# Altium integrated library Коммут элементы-mm.IntLib: 58 symbols
Pins are listed as number, name and electrical type; pins without a type are passive.

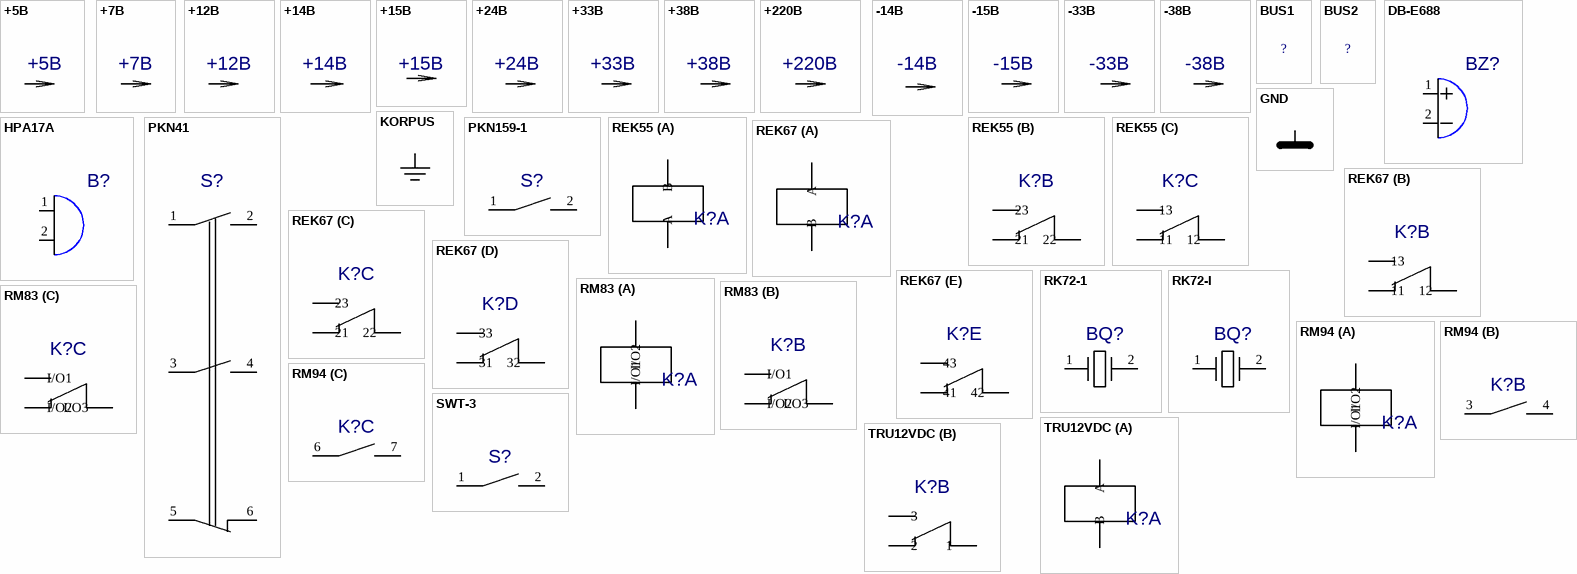
[diagram p0: symbols +5B to TRU12VDC]

## +5B
designator PWR?
Value: +5B
pins: 1 +5B (power)

## +7B
designator PWR?
Value: +7B
pins: 1 +7B (power)

## +12B
designator PWR?
Value: +12B
pins: 1 +12B (power)

## +14B
designator PWR?
Value: +14B
pins: 1 +14B (power)

## +15B
designator PWR?
Value: +15B
pins: 1 +15B (power)

## +24B
designator PWR?
Value: +24B
pins: 1 +24B (power)

## +33B
designator PWR?
Value: +33B
pins: 1 +33B (power)

## +38B
designator PWR?
Value: +38B
pins: 1 +38B (power)

## +220B
designator PWR?
Value: +220B
pins: 1 +220B (power)

## -14B
designator PWR?
Value: -14B
pins: 1 -14B (power)

## -15B
designator PWR?
Value: -15B
pins: 1 -15B (power)

## -33B
designator PWR?
Value: -33B
pins: 1 -33B (power)

## -38B
designator PWR?
Value: -38B
pins: 1 -38B (power)

## BUS1
designator ?  (value not drawn)
Value: *
footprint BUS1
pins: 1 GND (power) hidden, 2 GND (power) hidden, 3 GND (power) hidden, 4 GND (power) hidden, 5 GND (power) hidden, 6 GND (power) hidden, 7 GND (power) hidden, 8 GND (power) hidden

## BUS2
designator ?  (value not drawn)
Value: *
footprint BUS2
pins: 1 GND (power) hidden, 2 GND (power) hidden, 3 GND (power) hidden, 4 GND (power) hidden, 5 GND (power) hidden

## DB-E688
designator BZ?  (value not drawn)
Value: *
footprint DB-E688
pins: 1, 2

## GND
designator PWR?  (value not drawn)
Value: {Value}
pins: 1 GND (power)

## HPA17A
designator B?  (value not drawn)
Value: *
footprint ZUM-2
pins: 1, 2

## KORPUS
designator PWR?  (value not drawn)
Value: *
pins: 1 KORPUS (power)

## PKN41
designator S?  (value not drawn)
Value: *
footprint PKN41
pins: 1 I/O1, 2 I/O2, 3 I/O3, 4 I/O4, 5 I/O5, 6 I/O6

## PKN159-1
designator S?  (value not drawn)
Value: *
footprint PKN159-1
pins: 1 I/O1, 2 I/O2

## REK55
designator K?  (value not drawn)
Value: *
footprint REK55
part A pins: 1 B, 2 A
part B pins: 3 22, 4 21, 5 23
part C pins: 6 12, 7 11, 8 13

## REK67
designator K?  (value not drawn)
Value: *
footprint REK67
part A pins: 1 A, 2 B
part B pins: 3 11, 4 12, 5 13
part C pins: 6 21, 7 22, 8 23
part D pins: 9 31, 10 32, 11 33
part E pins: 12 41, 13 42, 14 43

## RK72-1
designator BQ?  (value not drawn)
Value: *
footprint RK72-I
pins: 1 I/O1, 2 I/O2

## RK72-I
designator BQ?  (value not drawn)
Value: *
footprint RK72-I
pins: 1 I/O1, 2 I/O2

## RM83
designator K?  (value not drawn)
Value: *
footprint RM83
part A pins: 1 I/O1, 2 I/O2
part B pins: 3 I/O2, 4 I/O3, 5 I/O1
part C pins: 6 I/O2, 7 I/O3, 8 I/O1

## RM94
designator K?  (value not drawn)
Value: *
footprint RM94
pins on every part: 5 hidden, 8 hidden
part A pins: 1 I/O1, 2 I/O2
part B pins: 3 I/O1, 4 I/O2
part C pins: 6 I/O1, 7 I/O2

## SWT-3
designator S?  (value not drawn)
Value: *
footprint SWT3
pins: 1 I/O1, 2 I/O2, 3 hidden, 4 hidden

## TRU12VDC
designator K?  (value not drawn)
Value: *
footprint TRU12VDC
part A pins: 1 A, 2 B
part B pins: 3 1, 4 2, 5 3

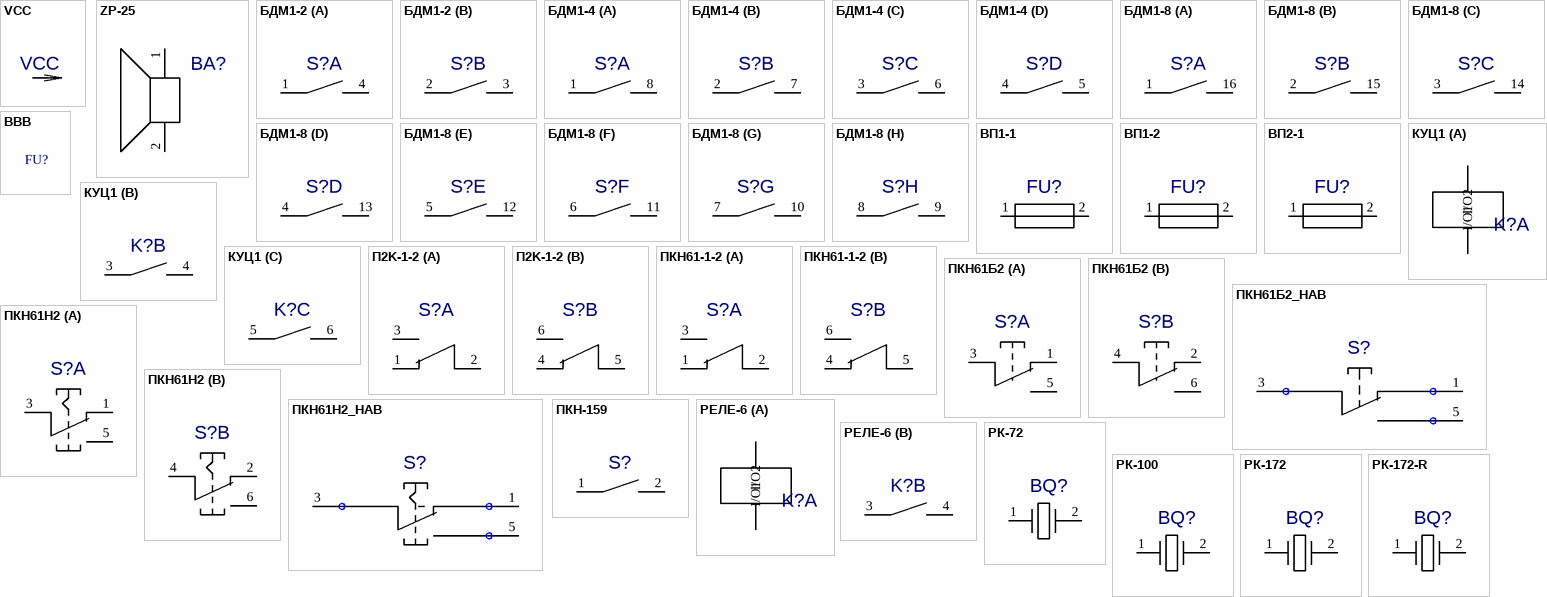
[diagram p1: symbols VCC to РК-172-R]

## VCC
designator PWR?
Value: VCC
pins: 1 VCC (power)

## ZP-25
designator BA?  (value not drawn)
Value: *
footprint ZUM1
pins: 1 I/O1, 2 I/O2

## БДМ1-2
designator S?  (value not drawn)
Value: *
footprint BDM1-2
part A pins: 1 I/O1, 4 I/O2
part B pins: 2 I/O1, 3 I/O2

## БДМ1-4
designator S?  (value not drawn)
Value: *
footprint BDM1-4
part A pins: 1 I/O1, 8 I/O2
part B pins: 2 I/O1, 7 I/O2
part C pins: 3 I/O1, 6 I/O2
part D pins: 4 I/O1, 5 I/O2

## БДМ1-8
designator S?  (value not drawn)
Value: *
footprint BDM1-8
part A pins: 1 I/O1, 16 I/O2
part B pins: 2 I/O1, 15 I/O2
part C pins: 3 I/O1, 14 I/O2
part D pins: 4 I/O1, 13 I/O2
part E pins: 5 I/O1, 12 I/O2
part F pins: 6 I/O1, 11 I/O2
part G pins: 7 I/O1, 10 I/O2
part H pins: 8 I/O1, 9 I/O2

## ВВВ
designator FU?  (value not drawn)
PDIF_TY: 12023; Value: *
footprint VP2-1_ВВВ(Primary)
pins: A 3 hidden, B 4 hidden

## ВП1-1
designator FU?  (value not drawn)
Value: *
footprint VP1-1
pins: 1 I/O1, 2 I/O2, 3 hidden, 4 hidden

## ВП1-2
designator FU?  (value not drawn)
Value: *
footprint ВП1-2
pins: 1 I/O0, 2 I/O1

## ВП2-1
designator FU?  (value not drawn)
Value: *
footprint VP2-1
pins: 1 I/O1, 2 I/O2, 3 hidden, 4 hidden

## КУЦ1
designator K?  (value not drawn)
Value: *
footprint KUZ1
part A pins: 1 I/O1, 2 I/O2
part B pins: 3 I/O1, 4 I/O2
part C pins: 5 I/O1, 6 I/O2

## П2K-1-2
designator S?  (value not drawn)
Value: *
footprint P2K-1-2
part A pins: 1 I/O2, 2 I/O3, 3 I/O1
part B pins: 4 I/O2, 5 I/O3, 6 I/O1

## ПКН61-1-2
designator S?  (value not drawn)
Value: *
footprint PKN61-1
part A pins: 1 I/O2, 2 I/O3, 3 I/O1
part B pins: 4 I/O2, 5 I/O3, 6 I/O1

## ПКН61Б2
designator S?  (value not drawn)
Value: *
footprint PKN61-1_ПКН61Б2(Primary)
part A pins: 1 I/O2, 3 I/O3, 5 I/O1
part B pins: 2 I/O2, 4 I/O3, 6 I/O1

## ПКН61Б2_НАВ
designator S?  (value not drawn)
Value: *
footprint ПКН61-НАВ_ПКН61Б2_НАВ(Primary)
pins: 1 I/O2, 3 I/O3, 5 I/O1

## ПКН61Н2
designator S?  (value not drawn)
Value: *
footprint PKN61-1_ПКН61Н2(Primary)
part A pins: 1 I/O2, 3 I/O3, 5 I/O1
part B pins: 2 I/O2, 4 I/O3, 6 I/O1

## ПКН61Н2_НАВ
designator S?  (value not drawn)
Value: *
footprint ПКН61-НАВ_ПКН61Н2_НАВ(Primary)
pins: 1 I/O2, 3 I/O3, 5 I/O1

## ПКН-159
designator S?  (value not drawn)
Value: *
footprint PKN159
pins: 1 I/O1, 2 I/O2, 3 hidden, 4 hidden

## РЕЛЕ-6
designator K?  (value not drawn)
Value: *
footprint RELE6
part A pins: 1 I/O1, 2 I/O2
part B pins: 3 I/O1, 4 I/O2

## РК-72
designator BQ?  (value not drawn)
Value: *
footprint RK72
pins: 1 I/O1, 2 I/O2

## РК-100
designator BQ?  (value not drawn)
Value: *
footprint RK100
pins: 1 I/O1, 2 I/O2

## РК-172
designator BQ?  (value not drawn)
Value: *
footprint RK172
pins: 1 I/O1, 2 I/O2

## РК-172-R
designator BQ?  (value not drawn)
Value: *
footprint RK172R
pins: 1 I/O1, 2 I/O2

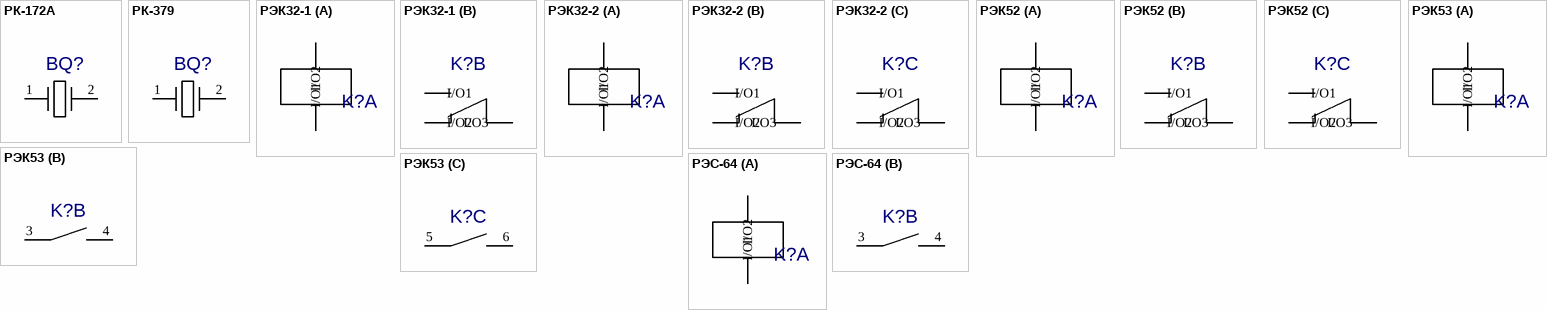
[diagram p2: symbols РК-172А to РЭС-64]

## РК-172А
designator BQ?  (value not drawn)
Value: *
footprint RK172A
pins: 1 I/O1, 2 I/O2

## РК-379
designator BQ?  (value not drawn)
Value: *
footprint RK379
pins: 1 I/O1, 2 I/O2, 3 hidden, 4 hidden, 5 hidden, 6 hidden

## РЭК32-1
designator K?  (value not drawn)
Value: *
footprint REK32-1
part A pins: 1 I/O1, 2 I/O2
part B pins: 3 I/O2, 4 I/O3, 5 I/O1

## РЭК32-2
designator K?  (value not drawn)
Value: *
footprint REK32-2
part A pins: 1 I/O1, 2 I/O2
part B pins: 3 I/O1, 4 I/O2, 5 I/O3
part C pins: 6 I/O2, 7 I/O3, 8 I/O1

## РЭК52
designator K?  (value not drawn)
Value: *
footprint REK52
part A pins: 1 I/O1, 2 I/O2
part B pins: 3 I/O2, 4 I/O3, 5 I/O1
part C pins: 6 I/O2, 7 I/O3, 8 I/O1

## РЭК53
designator K?  (value not drawn)
Value: *
footprint REK53
part A pins: 1 I/O1, 2 I/O2
part B pins: 3 I/O1, 4 I/O2
part C pins: 5 I/O1, 6 I/O2

## РЭС-64
designator K?  (value not drawn)
Value: *
footprint RES64
pins on every part: 5 hidden
part A pins: 1 I/O1, 2 I/O2
part B pins: 3 I/O1, 4 I/O2